# Altium integrated library TI Interface Display.IntLib: 133 symbols (part 15 of 16)
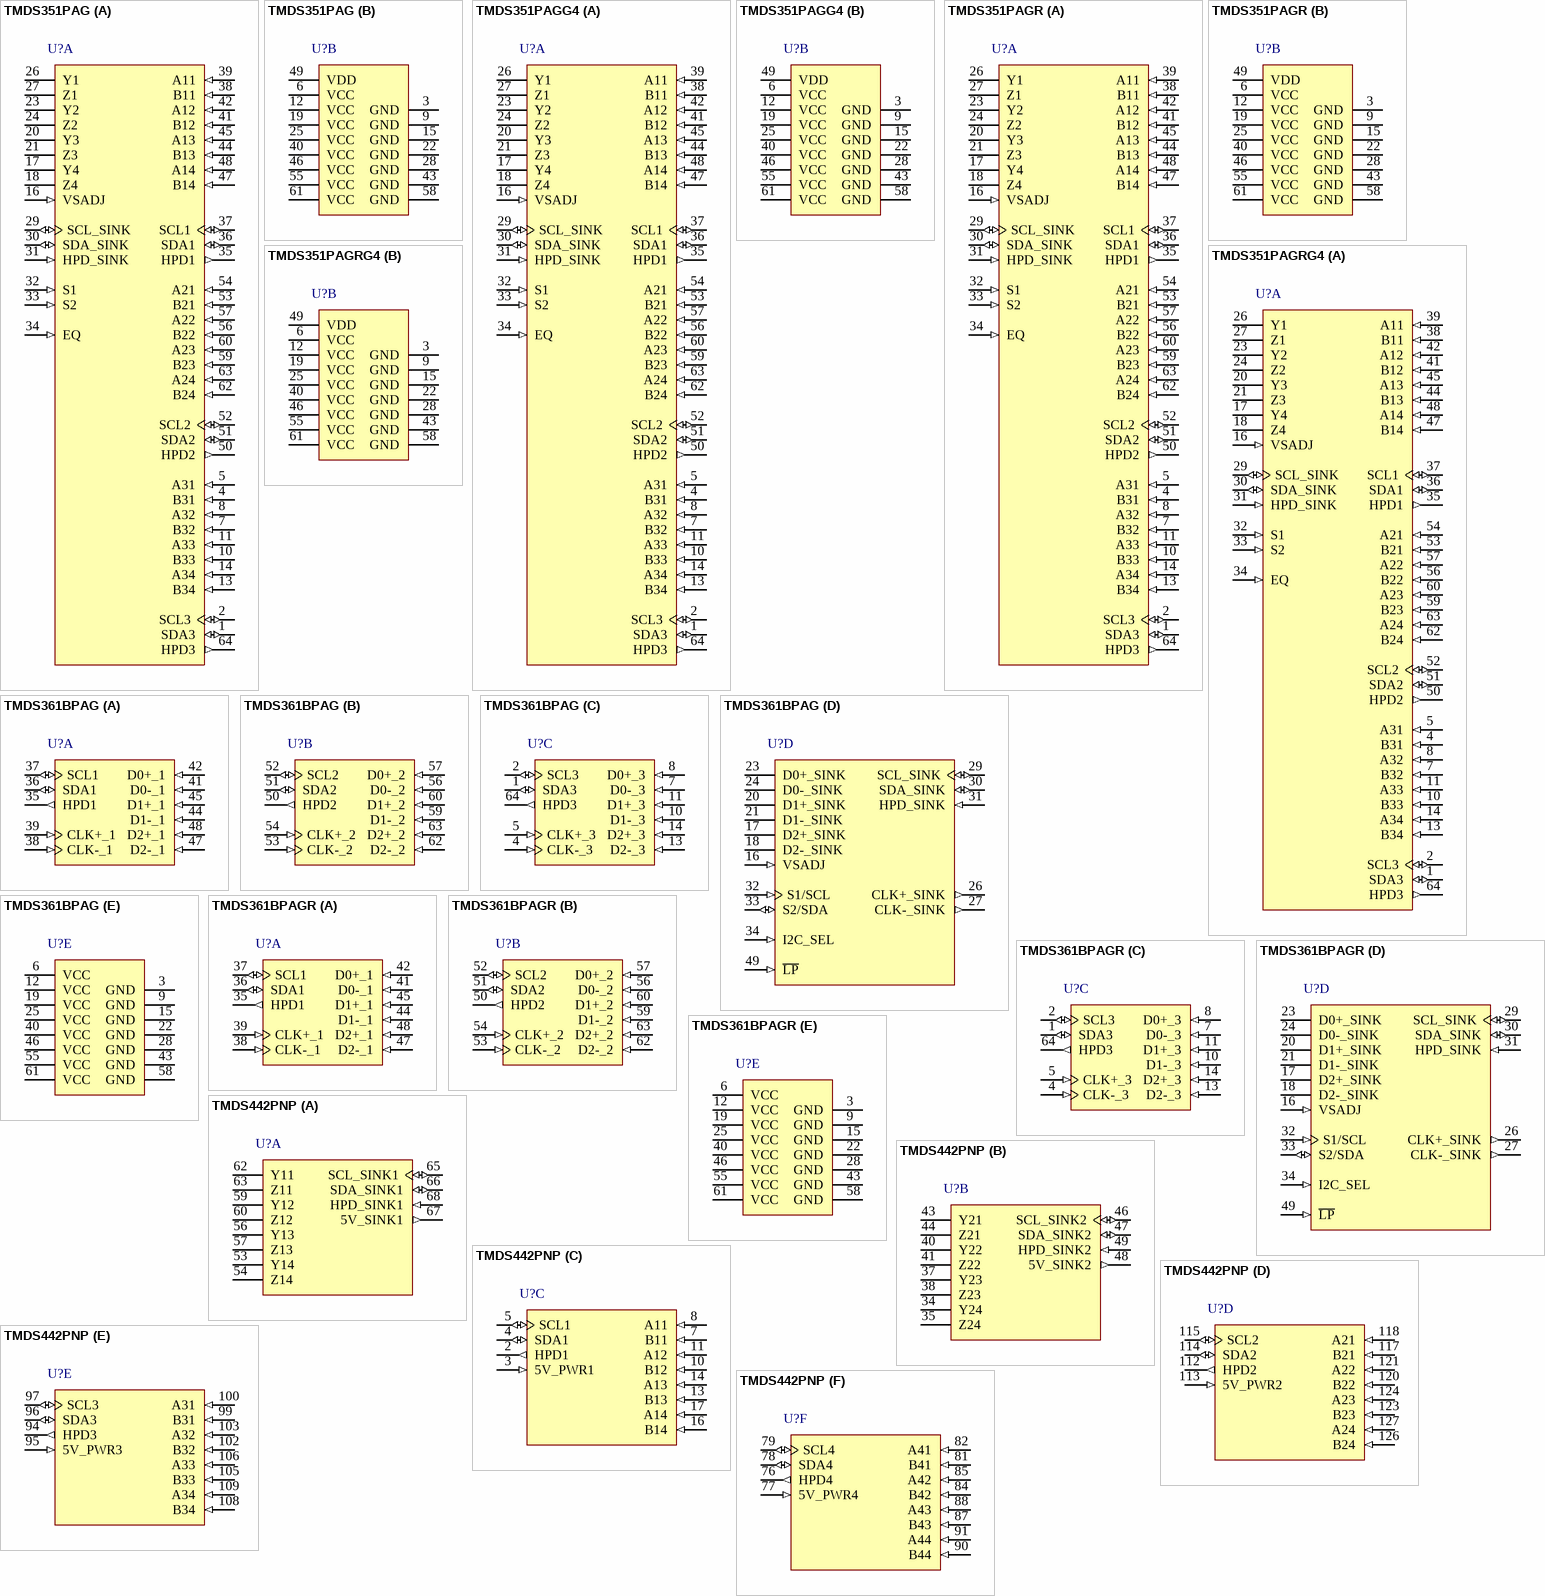
[diagram p28: symbols TMDS351PAG to TMDS442PNP]

## TMDS361BPAG
designator U?
3 to 1 HDMI switch, 10 kV, 216 mA, 0 to +70 degC, 64-pin TQFP (PAG64), Green (RoHS & no Sb/Br); Manufacturer: Texas Instruments; PartNumber: TMDS361BPAG; Clock P-P Jitter(Max)(ps): 84; Data P-P Jitter(Max)(ps): 198; ESD HBM(kV): 10; ICC(Max)(mA): 216; Inter-Pair Skew(Max)(ps): 100; Intra-Pair Skew(Max)(ps): 30; No. of TMDS Inputs: 3; No. of TMDS Outputs: 1; SubFamily: DVI/HDMI Repeater/Switch; TMDS Adaptive Equalization: TRUE; DatasheetVersion: SLLS988A; PackageVersion: Dec-1996; PackageReference: PAG64; PackageDescription: 64-Pin Thin Quad Flat Pack 0.5 mm Pitch; Supplier 1: Digi-Key; Supplier Part Number 1: 296-25278-ND; Supplier 2: Farnell; Supplier Part Number 2: 1854445MPKG; Supplier 3: Farnell; Supplier Part Number 3: 1854445; Supplier 4: Farnell; Supplier Part Number 4: 1780794; Supplier 5: Newark; Supplier Part Number 5: 51R4693; Supplier 6: Mouser; Supplier Part Number 6: 595-TMDS361BPAG; Eco-Plan: Green (RoHS & no Sb/Br); Mounting Technology: Surface Mount; Code_JEDEC: MS-026; ComponentLink1Description: Datasheet; ComponentLink1URL: http://www.ti.com/general/docs/lit/getliterature.tsp?genericPartNumber=TMDS361B&fileType=pdf; ComponentLink2Description: URL Link1; ComponentLink2URL: SamplesURL:http://www.ti.com/product/tmds361b#samples
footprint PAG64_N (Thin QFP, 64-Leads, Body 10x10mm, Pitch 0.5mm, IPC Medium Density)
footprint PAG64_L (Thin QFP, 64-Leads, Body 10x10mm, Pitch 0.5mm, IPC High Density)
footprint PAG64_M (Thin QFP, 64-Leads, Body 10x10mm, Pitch 0.5mm, IPC Low Density)
part A pins: 35 HPD1 (out) "Source port hot-plug-detect output", 36 SDA1 (io) "TMDS port bidirectional DDC data", 37 SCL1 (io) "TMDS port bidirectional DDC clock", 38 CLK-_1 (in) "Port-1 TMDS differential clock", 39 CLK+_1 (in) "Port-1 TMDS differential clock", 41 D0-_1 (in) "Port-1 TMDS differential data inputs", 42 D0+_1 (in) "Port-1 TMDS differential data inputs", 44 D1-_1 (in) "Port-1 TMDS differential data inputs", 45 D1+_1 (in) "Port-1 TMDS differential data inputs", 47 D2-_1 (in) "Port-1 TMDS differential data inputs", 48 D2+_1 (in) "Port-1 TMDS differential data inputs"
part B pins: 50 HPD2 (out) "Source port hot-plug-detect output", 51 SDA2 (io) "TMDS port bidirectional DDC data", 52 SCL2 (io) "TMDS port bidirectional DDC clock", 53 CLK-_2 (in) "Port-2 TMDS differential clock", 54 CLK+_2 (in) "Port-2 TMDS differential clock", 56 D0-_2 (in) "Port-2 TMDS differential data inputs", 57 D0+_2 (in) "Port-2 TMDS differential data inputs", 59 D1-_2 (in) "Port-2 TMDS differential data inputs", 60 D1+_2 (in) "Port-2 TMDS differential data inputs", 62 D2-_2 (in) "Port-2 TMDS differential data inputs", 63 D2+_2 (in) "Port-2 TMDS differential data inputs"
part C pins: 1 SDA3 (io) "TMDS port bidirectional DDC data", 2 SCL3 (io) "TMDS port bidirectional DDC clock", 4 CLK-_3 (in) "Port-3 TMDS differential clock", 5 CLK+_3 (in) "Port-3 TMDS differential clock", 7 D0-_3 (in) "Port-3 TMDS differential data inputs", 8 D0+_3 (in) "Port-3 TMDS differential data inputs", 10 D1-_3 (in) "Port-3 TMDS differential data inputs", 11 D1+_3 (in) "Port-3 TMDS differential data inputs", 13 D2-_3 (in) "Port-3 TMDS differential data inputs", 14 D2+_3 (in) "Port-3 TMDS differential data inputs", 64 HPD3 (out) "Source port hot-plug-detect output"
part D pins: 16 VSADJ (in) "TMDS-compliant voltage swing control", 17 D2+_SINK (hiz) "TMDS sink differential data outputs", 18 D2-_SINK (hiz) "TMDS sink differential data outputs", 20 D1+_SINK (hiz) "TMDS sink differential data outputs", 21 D1-_SINK (hiz) "TMDS sink differential data outputs", 23 D0+_SINK (hiz) "TMDS sink differential data outputs", 24 D0-_SINK (hiz) "TMDS sink differential data outputs", 26 CLK+_SINK (out) "TMDS sink differential clock", 27 CLK-_SINK (out) "TMDS sink differential clock", 29 SCL_SINK (io) "TMDS sink-side bidirectional DDC clock", 30 SDA_SINK (io) "TMDS sink-side bidirectional DDC data", 31 HPD_SINK (in) "Sink hot-plug-detect input", 32 S1/SCL (in) "Source select 1(GPIO) / local I2C clock (I2C)", 33 S2/SDA (io) "Source select 2 (GPIO) / local I2C data (I2C)", 34 I2C_SEL (in) "GPIO/local I2C control select", 49 ~{LP} (in) "Low-power select bar"
part E pins: 3 GND (power) "Ground", 6 VCC (power) "3.3-V supply", 9 GND (power) "Ground", 12 VCC (power) "3.3-V supply", 15 GND (power) "Ground", 19 VCC (power) "3.3-V supply", 22 GND (power) "Ground", 25 VCC (power) "3.3-V supply", 28 GND (power) "Ground", 40 VCC (power) "3.3-V supply", 43 GND (power) "Ground", 46 VCC (power) "3.3-V supply", 55 VCC (power) "3.3-V supply", 58 GND (power) "Ground", 61 VCC (power) "3.3-V supply"

## TMDS361BPAGR
designator U?
3 to 1 HDMI switch, 10 kV, 216 mA, 0 to +70 degC, 64-pin TQFP (PAG64), Green (RoHS & no Sb/Br); Manufacturer: Texas Instruments; PartNumber: TMDS361BPAGR; Clock P-P Jitter(Max)(ps): 84; Data P-P Jitter(Max)(ps): 198; ESD HBM(kV): 10; ICC(Max)(mA): 216; Inter-Pair Skew(Max)(ps): 100; Intra-Pair Skew(Max)(ps): 30; No. of TMDS Inputs: 3; No. of TMDS Outputs: 1; SubFamily: DVI/HDMI Repeater/Switch; TMDS Adaptive Equalization: TRUE; DatasheetVersion: SLLS988A; PackageVersion: Dec-1996; PackageReference: PAG64; PackageDescription: 64-Pin Thin Quad Flat Pack 0.5 mm Pitch; Supplier 1: Digi-Key; Supplier Part Number 1: TMDS361BPAGR-ND; Supplier 2: Newark; Supplier Part Number 2: 55R7479; Supplier 3: Mouser; Supplier Part Number 3: 595-TMDS361BPAGR; Eco-Plan: Green (RoHS & no Sb/Br); Mounting Technology: Surface Mount; Code_JEDEC: MS-026; ComponentLink1Description: Datasheet; ComponentLink1URL: http://www.ti.com/general/docs/lit/getliterature.tsp?genericPartNumber=TMDS361B&fileType=pdf; ComponentLink2Description: URL Link1; ComponentLink2URL: SamplesURL:http://www.ti.com/product/tmds361b#samples
footprint PAG64_N (Thin QFP, 64-Leads, Body 10x10mm, Pitch 0.5mm, IPC Medium Density)
footprint PAG64_L (Thin QFP, 64-Leads, Body 10x10mm, Pitch 0.5mm, IPC High Density)
footprint PAG64_M (Thin QFP, 64-Leads, Body 10x10mm, Pitch 0.5mm, IPC Low Density)
part A pins: 35 HPD1 (out) "Source port hot-plug-detect output", 36 SDA1 (io) "TMDS port bidirectional DDC data", 37 SCL1 (io) "TMDS port bidirectional DDC clock", 38 CLK-_1 (in) "Port-1 TMDS differential clock", 39 CLK+_1 (in) "Port-1 TMDS differential clock", 41 D0-_1 (in) "Port-1 TMDS differential data inputs", 42 D0+_1 (in) "Port-1 TMDS differential data inputs", 44 D1-_1 (in) "Port-1 TMDS differential data inputs", 45 D1+_1 (in) "Port-1 TMDS differential data inputs", 47 D2-_1 (in) "Port-1 TMDS differential data inputs", 48 D2+_1 (in) "Port-1 TMDS differential data inputs"
part B pins: 50 HPD2 (out) "Source port hot-plug-detect output", 51 SDA2 (io) "TMDS port bidirectional DDC data", 52 SCL2 (io) "TMDS port bidirectional DDC clock", 53 CLK-_2 (in) "Port-2 TMDS differential clock", 54 CLK+_2 (in) "Port-2 TMDS differential clock", 56 D0-_2 (in) "Port-2 TMDS differential data inputs", 57 D0+_2 (in) "Port-2 TMDS differential data inputs", 59 D1-_2 (in) "Port-2 TMDS differential data inputs", 60 D1+_2 (in) "Port-2 TMDS differential data inputs", 62 D2-_2 (in) "Port-2 TMDS differential data inputs", 63 D2+_2 (in) "Port-2 TMDS differential data inputs"
part C pins: 1 SDA3 (io) "TMDS port bidirectional DDC data", 2 SCL3 (io) "TMDS port bidirectional DDC clock", 4 CLK-_3 (in) "Port-3 TMDS differential clock", 5 CLK+_3 (in) "Port-3 TMDS differential clock", 7 D0-_3 (in) "Port-3 TMDS differential data inputs", 8 D0+_3 (in) "Port-3 TMDS differential data inputs", 10 D1-_3 (in) "Port-3 TMDS differential data inputs", 11 D1+_3 (in) "Port-3 TMDS differential data inputs", 13 D2-_3 (in) "Port-3 TMDS differential data inputs", 14 D2+_3 (in) "Port-3 TMDS differential data inputs", 64 HPD3 (out) "Source port hot-plug-detect output"
part D pins: 16 VSADJ (in) "TMDS-compliant voltage swing control", 17 D2+_SINK (hiz) "TMDS sink differential data outputs", 18 D2-_SINK (hiz) "TMDS sink differential data outputs", 20 D1+_SINK (hiz) "TMDS sink differential data outputs", 21 D1-_SINK (hiz) "TMDS sink differential data outputs", 23 D0+_SINK (hiz) "TMDS sink differential data outputs", 24 D0-_SINK (hiz) "TMDS sink differential data outputs", 26 CLK+_SINK (out) "TMDS sink differential clock", 27 CLK-_SINK (out) "TMDS sink differential clock", 29 SCL_SINK (io) "TMDS sink-side bidirectional DDC clock", 30 SDA_SINK (io) "TMDS sink-side bidirectional DDC data", 31 HPD_SINK (in) "Sink hot-plug-detect input", 32 S1/SCL (in) "Source select 1(GPIO) / local I2C clock (I2C)", 33 S2/SDA (io) "Source select 2 (GPIO) / local I2C data (I2C)", 34 I2C_SEL (in) "GPIO/local I2C control select", 49 ~{LP} (in) "Low-power select bar"
part E pins: 3 GND (power) "Ground", 6 VCC (power) "3.3-V supply", 9 GND (power) "Ground", 12 VCC (power) "3.3-V supply", 15 GND (power) "Ground", 19 VCC (power) "3.3-V supply", 22 GND (power) "Ground", 25 VCC (power) "3.3-V supply", 28 GND (power) "Ground", 40 VCC (power) "3.3-V supply", 43 GND (power) "Ground", 46 VCC (power) "3.3-V supply", 55 VCC (power) "3.3-V supply", 58 GND (power) "Ground", 61 VCC (power) "3.3-V supply"

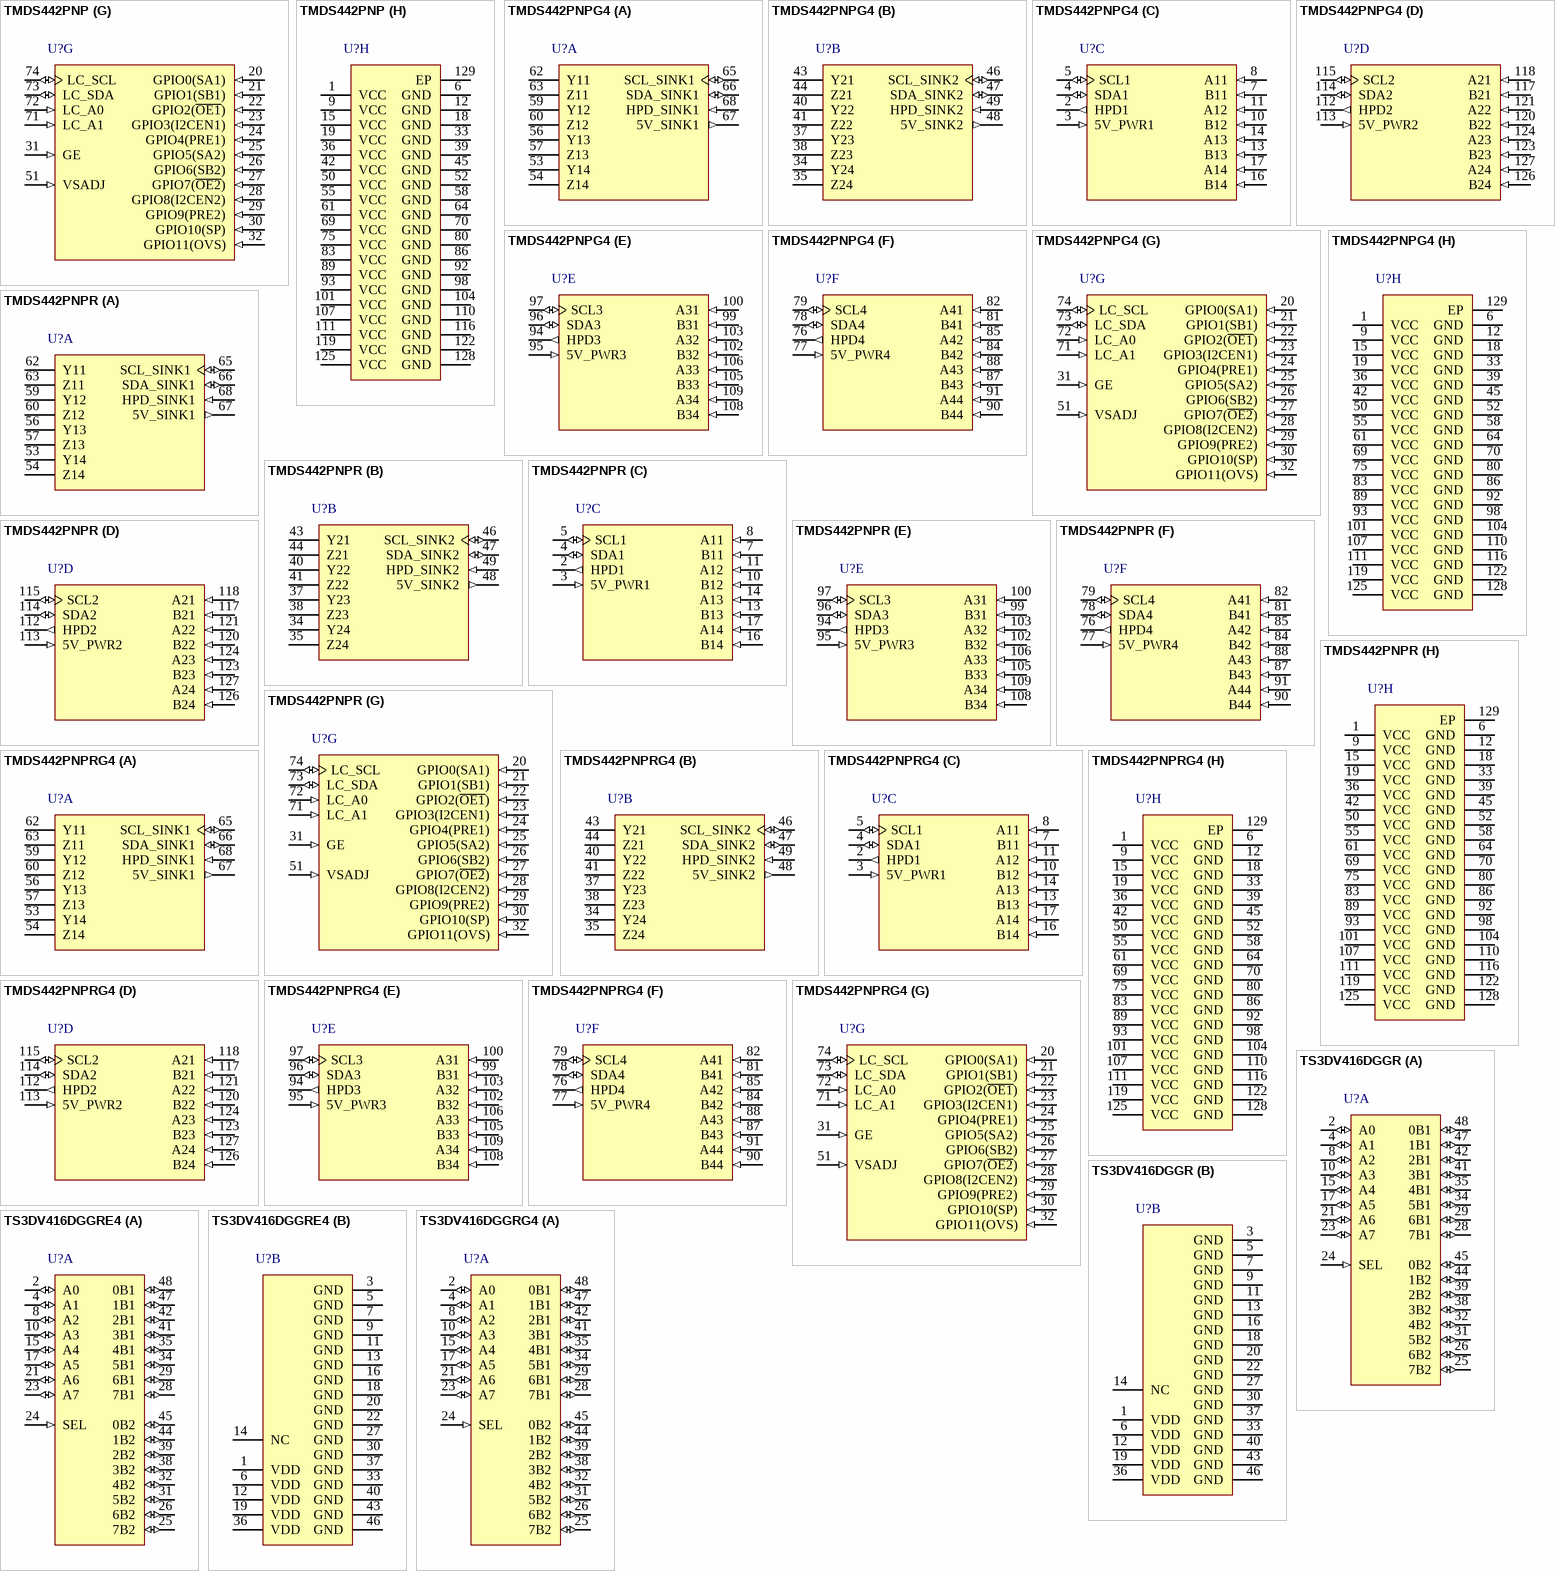
[diagram p13: symbols TMDS442PNP to TS3DV416DGGRG4]

## TMDS442PNP
designator U?
4-to-2 DVI / HDMI Switch, 6 kV, 412 mA, 0 to +70 degC, 128-pin HTQFP (PNP128), Green (RoHS & no Sb/Br); Manufacturer: Texas Instruments; PartNumber: TMDS442PNP; Clock P-P Jitter(Max)(ps): 30; Data P-P Jitter(Max)(ps): 33; ESD HBM(kV): 6; ICC(Max)(mA): 412; Inter-Pair Skew(Max)(ps): 150; No. of TMDS Inputs: 4; No. of TMDS Outputs: 2; SubFamily: DVI/HDMI Repeater/Switch; TMDS Input Equalization: TRUE; DatasheetVersion: SLLS757A; PackageVersion: revF, May-2011; PackageReference: PNP128-4900X4900TP; PackageDescription: 128-Pin PowerPAD Plastic Quad Flat Pack, 14 x 14 mm Body, 0.4 mm Pitch, Exposed Pad; Supplier 1: Digi-Key; Supplier Part Number 1: 296-26832-5-ND; Supplier 2: Newark; Supplier Part Number 2: 14M2469; Supplier 3: Mouser; Supplier Part Number 3: 595-TMDS442PNP; Eco-Plan: Green (RoHS & no Sb/Br); Intra-Pair Skew(Max)(ps): 150; TMDS Output De-emphasis: TRUE; Mounting Technology: Surface Mount; ComponentLink1Description: Datasheet; ComponentLink1URL: http://www.ti.com/general/docs/lit/getliterature.tsp?genericPartNumber=TMDS442&fileType=pdf; ComponentLink2Description: URL Link1; ComponentLink2URL: SamplesURL:http://www.ti.com/product/tmds442#samples
footprint PNP128-4900X4900TP_N (Thin QFP, 128-Leads, Body 14x14mm, Pitch 0.4mm, Thermal Pad 5.3x5.3mm, IPC Medium Density)
footprint PNP128-4900X4900TP_L (Thin QFP, 128-Leads, Body 14x14mm, Pitch 0.4mm, Thermal Pad 5.3x5.3mm, IPC High Density)
footprint PNP128-4900X4900TP_M (Thin QFP, 128-Leads, Body 14x14mm, Pitch 0.4mm, Thermal Pad 5.3x5.3mm, IPC Low Density)
part A pins: 53 Y14 (hiz) "Sink port 1 TMDS positive outputs", 54 Z14 (hiz) "Sink port 1 TMDS negative outputs", 56 Y13 (hiz) "Sink port 1 TMDS positive outputs", 57 Z13 (hiz) "Sink port 1 TMDS negative outputs", 59 Y12 (hiz) "Sink port 1 TMDS positive outputs", 60 Z12 (hiz) "Sink port 1 TMDS negative outputs", 62 Y11 (hiz) "Sink port 1 TMDS positive outputs", 63 Z11 (hiz) "Sink port 1 TMDS negative outputs", 65 SCL_SINK1 (io) "Sink port 1 DDC I2C clock line", 66 SDA_SINK1 (io) "Sink port 1 DDC I2C data line", 67 5V_SINK1 (out) "Sink Port 1 5-V power indicator output", 68 HPD_SINK1 (in) "Sink port 1 hot plug detector input"
part B pins: 34 Y24 (hiz) "Sink port 2 TMDS positive outputs", 35 Z24 (hiz) "Sink port 2 TMDS negative outputs", 37 Y23 (hiz) "Sink port 2 TMDS positive outputs", 38 Z23 (hiz) "Sink port 2 TMDS negative outputs", 40 Y22 (hiz) "Sink port 2 TMDS positive outputs", 41 Z22 (hiz) "Sink port 2 TMDS negative outputs", 43 Y21 (hiz) "Sink port 2 TMDS positive outputs", 44 Z21 (hiz) "Sink port 2 TMDS negative outputs", 46 SCL_SINK2 (io) "Sink port 2 DDC I2C clock line", 47 SDA_SINK2 (io) "Sink port 2 DDC I2C data line", 48 5V_SINK2 (out) "Sink Port 2 5-V power indicator output", 49 HPD_SINK2 (in) "Sink port 2 hot plug detector input"
part C pins: 2 HPD1 (out) "Source Port 1 hot plug detector output", 3 5V_PWR1 (in) "Source Port 1 5-V power signal input", 4 SDA1 (io) "Source Port 1 DDC I2C data line", 5 SCL1 (io) "Source Port 1 DDC I2C clock line", 7 B11 (in) "Source port 1 TMDS negative inputs", 8 A11 (in) "Source port 1 TMDS positive inputs", 10 B12 (in) "Source port 1 TMDS negative inputs", 11 A12 (in) "Source port 1 TMDS positive inputs", 13 B13 (in) "Source port 1 TMDS negative inputs", 14 A13 (in) "Source port 1 TMDS positive inputs", 16 B14 (in) "Source port 1 TMDS negative inputs", 17 A14 (in) "Source port 1 TMDS positive inputs"
part D pins: 112 HPD2 (out) "Source Port 2 hot plug detector output", 113 5V_PWR2 (in) "Source Port 2 5-V power signal input", 114 SDA2 (io) "Source Port 2 DDC I2C data line", 115 SCL2 (io) "Source Port 2 DDC I2C clock line", 117 B21 (in) "Source port 2 TMDS negative inputs", 118 A21 (in) "Source port 2 TMDS positive inputs", 120 B22 (in) "Source port 2 TMDS negative inputs", 121 A22 (in) "Source port 2 TMDS positive inputs", 123 B23 (in) "Source port 2 TMDS negative inputs", 124 A23 (in) "Source port 2 TMDS positive inputs", 126 B24 (in) "Source port 2 TMDS negative inputs", 127 A24 (in) "Source port 2 TMDS positive inputs"
part E pins: 94 HPD3 (out) "Source Port 3 hot plug detector output", 95 5V_PWR3 (in) "Source Port 3 5-V power signal input", 96 SDA3 (io) "Source Port 3 DDC I2C data line", 97 SCL3 (io) "Source Port 3 DDC I2C clock line", 99 B31 (in) "Source port 3 TMDS negative inputs", 100 A31 (in) "Source port 3 TMDS positive inputs", 102 B32 (in) "Source port 3 TMDS negative inputs", 103 A32 (in) "Source port 3 TMDS positive inputs", 105 B33 (in) "Source port 3 TMDS negative inputs", 106 A33 (in) "Source port 3 TMDS positive inputs", 108 B34 (in) "Source port 3 TMDS negative inputs", 109 A34 (in) "Source port 3 TMDS positive inputs"
part F pins: 76 HPD4 (out) "Source Port 4 hot plug detector output", 77 5V_PWR4 (in) "Source Port 4 5-V power signal input", 78 SDA4 (io) "Source Port 4 DDC I2C data line", 79 SCL4 (io) "Source Port 4 DDC I2C clock line", 81 B41 (in) "Source port 4 TMDS negative inputs", 82 A41 (in) "Source port 4 TMDS positive inputs", 84 B42 (in) "Source port 4 TMDS negative inputs", 85 A42 (in) "Source port 4 TMDS positive inputs", 87 B43 (in) "Source port 4 TMDS negative inputs", 88 A43 (in) "Source port 4 TMDS positive inputs", 90 B44 (in) "Source port 4 TMDS negative inputs", 91 A44 (in) "Source port 4 TMDS positive inputs"
part G pins: 20 GPIO0(SA1) (in) "SA1 - Sink port 1 source selector", 21 GPIO1(SB1) (in) "SB1 - Sink port 1 source selector", 22 GPIO2(~{OE1}) (in) "O\E\1\ - Sink port 1 TMDS output enable", 23 GPIO3(I2CEN1) (in) "I2CEN1 - Sink port 1 DDC I2C output enable", 24 GPIO4(PRE1) (in) "PRE1 - Sink port 1 TMDS AC de-emphasis mode selector", 25 GPIO5(SA2) (in) "SA2 - Sink port 2 source selector", 26 GPIO6(SB2) (in) "SB2 - Sink port 2 source selector", 27 GPIO7(~{OE2}) (in) "O\E\2\ - Sink port 2 TMDS output enable", 28 GPIO8(I2CEN2) (in) "I2CEN2 - Sink port 2 DDC I2C output enable", 29 GPIO9(PRE2) (in) "PRE2 - Sink port 2 TMDS AC de-emphasis mode selector", 30 GPIO10(SP) (in) "SP - Sink priority selector", 31 GE (in) "GPIO Enable L:     Local I2C pins are active, GPIO pins are high impedance.    H: GPIO pins are active, local I2C pins are high impedance", 32 GPIO11(OVS) (in) "OVS - SCL_SINK/SDA_SINK output voltage select", 51 VSADJ (in) "TMDS compliant voltage swing control", 71 LC_A1 (in) "Local I2C address bit 1", 72 LC_A0 (in) "Local I2C address bit 0", 73 LC_SDA (io) "Local I2C data line", 74 LC_SCL (io) "Local I2C clock line"
part H pins: 1 VCC (power) "Power supply", 6 GND (power) "Ground", 9 VCC (power) "Power supply", 12 GND (power) "Ground", 15 VCC (power) "Power supply", 18 GND (power) "Ground", 19 VCC (power) "Power supply", 33 GND (power) "Ground", 36 VCC (power) "Power supply", 39 GND (power) "Ground", 42 VCC (power) "Power supply", 45 GND (power) "Ground", 50 VCC (power) "Power supply", 52 GND (power) "Ground", 55 VCC (power) "Power supply", 58 GND (power) "Ground", 61 VCC (power) "Power supply", 64 GND (power) "Ground", 69 VCC (power) "Power supply", 70 GND (power) "Ground", 75 VCC (power) "Power supply", 80 GND (power) "Ground", 83 VCC (power) "Power supply", 86 GND (power) "Ground", 89 VCC (power) "Power supply", 92 GND (power) "Ground", 93 VCC (power) "Power supply", 98 GND (power) "Ground", 101 VCC (power) "Power supply", 104 GND (power) "Ground", 107 VCC (power) "Power supply", 110 GND (power) "Ground", 111 VCC (power) "Power supply", 116 GND (power) "Ground", 119 VCC (power) "Power supply", 122 GND (power) "Ground", 125 VCC (power) "Power supply", 128 GND (power) "Ground", 129 EP "Thermal Pad"

## TMDS442PNPG4
designator U?
4-to-2 DVI / HDMI Switch, 6 kV, 412 mA, 0 to +70 degC, 128-pin HTQFP (PNP128), Green (RoHS & no Sb/Br); Manufacturer: Texas Instruments; PartNumber: TMDS442PNPG4; Clock P-P Jitter(Max)(ps): 30; Data P-P Jitter(Max)(ps): 33; ESD HBM(kV): 6; ICC(Max)(mA): 412; Inter-Pair Skew(Max)(ps): 150; No. of TMDS Inputs: 4; No. of TMDS Outputs: 2; SubFamily: DVI/HDMI Repeater/Switch; TMDS Input Equalization: TRUE; DatasheetVersion: SLLS757A; PackageVersion: revF, May-2011; PackageReference: PNP128-4900X4900TP; PackageDescription: 128-Pin PowerPAD Plastic Quad Flat Pack, 14 x 14 mm Body, 0.4 mm Pitch, Exposed Pad; Supplier 1: Digi-Key; Supplier Part Number 1: TMDS442PNPG4-ND; Supplier 2: Newark; Supplier Part Number 2: 18M3197; Supplier 3: Mouser; Supplier Part Number 3: 595-TMDS442PNPG4; Eco-Plan: Green (RoHS & no Sb/Br); Intra-Pair Skew(Max)(ps): 150; TMDS Output De-emphasis: TRUE; Mounting Technology: Surface Mount; ComponentLink1Description: Datasheet; ComponentLink1URL: http://www.ti.com/general/docs/lit/getliterature.tsp?genericPartNumber=TMDS442&fileType=pdf; ComponentLink2Description: URL Link1; ComponentLink2URL: SamplesURL:http://www.ti.com/product/tmds442#samples
footprint PNP128-4900X4900TP_N (Thin QFP, 128-Leads, Body 14x14mm, Pitch 0.4mm, Thermal Pad 5.3x5.3mm, IPC Medium Density)
footprint PNP128-4900X4900TP_L (Thin QFP, 128-Leads, Body 14x14mm, Pitch 0.4mm, Thermal Pad 5.3x5.3mm, IPC High Density)
footprint PNP128-4900X4900TP_M (Thin QFP, 128-Leads, Body 14x14mm, Pitch 0.4mm, Thermal Pad 5.3x5.3mm, IPC Low Density)
part A pins: 53 Y14 (hiz) "Sink port 1 TMDS positive outputs", 54 Z14 (hiz) "Sink port 1 TMDS negative outputs", 56 Y13 (hiz) "Sink port 1 TMDS positive outputs", 57 Z13 (hiz) "Sink port 1 TMDS negative outputs", 59 Y12 (hiz) "Sink port 1 TMDS positive outputs", 60 Z12 (hiz) "Sink port 1 TMDS negative outputs", 62 Y11 (hiz) "Sink port 1 TMDS positive outputs", 63 Z11 (hiz) "Sink port 1 TMDS negative outputs", 65 SCL_SINK1 (io) "Sink port 1 DDC I2C clock line", 66 SDA_SINK1 (io) "Sink port 1 DDC I2C data line", 67 5V_SINK1 (out) "Sink Port 1 5-V power indicator output", 68 HPD_SINK1 (in) "Sink port 1 hot plug detector input"
part B pins: 34 Y24 (hiz) "Sink port 2 TMDS positive outputs", 35 Z24 (hiz) "Sink port 2 TMDS negative outputs", 37 Y23 (hiz) "Sink port 2 TMDS positive outputs", 38 Z23 (hiz) "Sink port 2 TMDS negative outputs", 40 Y22 (hiz) "Sink port 2 TMDS positive outputs", 41 Z22 (hiz) "Sink port 2 TMDS negative outputs", 43 Y21 (hiz) "Sink port 2 TMDS positive outputs", 44 Z21 (hiz) "Sink port 2 TMDS negative outputs", 46 SCL_SINK2 (io) "Sink port 2 DDC I2C clock line", 47 SDA_SINK2 (io) "Sink port 2 DDC I2C data line", 48 5V_SINK2 (out) "Sink Port 2 5-V power indicator output", 49 HPD_SINK2 (in) "Sink port 2 hot plug detector input"
part C pins: 2 HPD1 (out) "Source Port 1 hot plug detector output", 3 5V_PWR1 (in) "Source Port 1 5-V power signal input", 4 SDA1 (io) "Source Port 1 DDC I2C data line", 5 SCL1 (io) "Source Port 1 DDC I2C clock line", 7 B11 (in) "Source port 1 TMDS negative inputs", 8 A11 (in) "Source port 1 TMDS positive inputs", 10 B12 (in) "Source port 1 TMDS negative inputs", 11 A12 (in) "Source port 1 TMDS positive inputs", 13 B13 (in) "Source port 1 TMDS negative inputs", 14 A13 (in) "Source port 1 TMDS positive inputs", 16 B14 (in) "Source port 1 TMDS negative inputs", 17 A14 (in) "Source port 1 TMDS positive inputs"
part D pins: 112 HPD2 (out) "Source Port 2 hot plug detector output", 113 5V_PWR2 (in) "Source Port 2 5-V power signal input", 114 SDA2 (io) "Source Port 2 DDC I2C data line", 115 SCL2 (io) "Source Port 2 DDC I2C clock line", 117 B21 (in) "Source port 2 TMDS negative inputs", 118 A21 (in) "Source port 2 TMDS positive inputs", 120 B22 (in) "Source port 2 TMDS negative inputs", 121 A22 (in) "Source port 2 TMDS positive inputs", 123 B23 (in) "Source port 2 TMDS negative inputs", 124 A23 (in) "Source port 2 TMDS positive inputs", 126 B24 (in) "Source port 2 TMDS negative inputs", 127 A24 (in) "Source port 2 TMDS positive inputs"
part E pins: 94 HPD3 (out) "Source Port 3 hot plug detector output", 95 5V_PWR3 (in) "Source Port 3 5-V power signal input", 96 SDA3 (io) "Source Port 3 DDC I2C data line", 97 SCL3 (io) "Source Port 3 DDC I2C clock line", 99 B31 (in) "Source port 3 TMDS negative inputs", 100 A31 (in) "Source port 3 TMDS positive inputs", 102 B32 (in) "Source port 3 TMDS negative inputs", 103 A32 (in) "Source port 3 TMDS positive inputs", 105 B33 (in) "Source port 3 TMDS negative inputs", 106 A33 (in) "Source port 3 TMDS positive inputs", 108 B34 (in) "Source port 3 TMDS negative inputs", 109 A34 (in) "Source port 3 TMDS positive inputs"
part F pins: 76 HPD4 (out) "Source Port 4 hot plug detector output", 77 5V_PWR4 (in) "Source Port 4 5-V power signal input", 78 SDA4 (io) "Source Port 4 DDC I2C data line", 79 SCL4 (io) "Source Port 4 DDC I2C clock line", 81 B41 (in) "Source port 4 TMDS negative inputs", 82 A41 (in) "Source port 4 TMDS positive inputs", 84 B42 (in) "Source port 4 TMDS negative inputs", 85 A42 (in) "Source port 4 TMDS positive inputs", 87 B43 (in) "Source port 4 TMDS negative inputs", 88 A43 (in) "Source port 4 TMDS positive inputs", 90 B44 (in) "Source port 4 TMDS negative inputs", 91 A44 (in) "Source port 4 TMDS positive inputs"
part G pins: 20 GPIO0(SA1) (in) "SA1 - Sink port 1 source selector", 21 GPIO1(SB1) (in) "SB1 - Sink port 1 source selector", 22 GPIO2(~{OE1}) (in) "O\E\1\ - Sink port 1 TMDS output enable", 23 GPIO3(I2CEN1) (in) "I2CEN1 - Sink port 1 DDC I2C output enable", 24 GPIO4(PRE1) (in) "PRE1 - Sink port 1 TMDS AC de-emphasis mode selector", 25 GPIO5(SA2) (in) "SA2 - Sink port 2 source selector", 26 GPIO6(SB2) (in) "SB2 - Sink port 2 source selector", 27 GPIO7(~{OE2}) (in) "O\E\2\ - Sink port 2 TMDS output enable", 28 GPIO8(I2CEN2) (in) "I2CEN2 - Sink port 2 DDC I2C output enable", 29 GPIO9(PRE2) (in) "PRE2 - Sink port 2 TMDS AC de-emphasis mode selector", 30 GPIO10(SP) (in) "SP - Sink priority selector", 31 GE (in) "GPIO Enable L:     Local I2C pins are active, GPIO pins are high impedance.    H: GPIO pins are active, local I2C pins are high impedance", 32 GPIO11(OVS) (in) "OVS - SCL_SINK/SDA_SINK output voltage select", 51 VSADJ (in) "TMDS compliant voltage swing control", 71 LC_A1 (in) "Local I2C address bit 1", 72 LC_A0 (in) "Local I2C address bit 0", 73 LC_SDA (io) "Local I2C data line", 74 LC_SCL (io) "Local I2C clock line"
part H pins: 1 VCC (power) "Power supply", 6 GND (power) "Ground", 9 VCC (power) "Power supply", 12 GND (power) "Ground", 15 VCC (power) "Power supply", 18 GND (power) "Ground", 19 VCC (power) "Power supply", 33 GND (power) "Ground", 36 VCC (power) "Power supply", 39 GND (power) "Ground", 42 VCC (power) "Power supply", 45 GND (power) "Ground", 50 VCC (power) "Power supply", 52 GND (power) "Ground", 55 VCC (power) "Power supply", 58 GND (power) "Ground", 61 VCC (power) "Power supply", 64 GND (power) "Ground", 69 VCC (power) "Power supply", 70 GND (power) "Ground", 75 VCC (power) "Power supply", 80 GND (power) "Ground", 83 VCC (power) "Power supply", 86 GND (power) "Ground", 89 VCC (power) "Power supply", 92 GND (power) "Ground", 93 VCC (power) "Power supply", 98 GND (power) "Ground", 101 VCC (power) "Power supply", 104 GND (power) "Ground", 107 VCC (power) "Power supply", 110 GND (power) "Ground", 111 VCC (power) "Power supply", 116 GND (power) "Ground", 119 VCC (power) "Power supply", 122 GND (power) "Ground", 125 VCC (power) "Power supply", 128 GND (power) "Ground", 129 EP "Thermal Pad"

## TMDS442PNPR
designator U?
4-to-2 DVI / HDMI Switch, 6 kV, 412 mA, 0 to +70 degC, 128-pin HTQFP (PNP128), Green (RoHS & no Sb/Br); Manufacturer: Texas Instruments; PartNumber: TMDS442PNPR; Clock P-P Jitter(Max)(ps): 30; Data P-P Jitter(Max)(ps): 33; ESD HBM(kV): 6; ICC(Max)(mA): 412; Inter-Pair Skew(Max)(ps): 150; No. of TMDS Inputs: 4; No. of TMDS Outputs: 2; SubFamily: DVI/HDMI Repeater/Switch; TMDS Input Equalization: TRUE; DatasheetVersion: SLLS757A; PackageVersion: revF, May-2011; PackageReference: PNP128-4900X4900TP; PackageDescription: 128-Pin PowerPAD Plastic Quad Flat Pack, 14 x 14 mm Body, 0.4 mm Pitch, Exposed Pad; Supplier 1: Digi-Key; Supplier Part Number 1: 296-21971-2-ND; Supplier 2: Digi-Key; Supplier Part Number 2: 296-21971-1-ND; Supplier 3: Digi-Key; Supplier Part Number 3: 296-21971-6-ND; Supplier 4: Newark; Supplier Part Number 4: 14M2470; Supplier 5: Mouser; Supplier Part Number 5: 595-TMDS442PNPR; Eco-Plan: Green (RoHS & no Sb/Br); Intra-Pair Skew(Max)(ps): 150; TMDS Output De-emphasis: TRUE; Mounting Technology: Surface Mount; ComponentLink1Description: Datasheet; ComponentLink1URL: http://www.ti.com/general/docs/lit/getliterature.tsp?genericPartNumber=TMDS442&fileType=pdf; ComponentLink2Description: URL Link1; ComponentLink2URL: SamplesURL:http://www.ti.com/product/tmds442#samples
footprint PNP128-4900X4900TP_N (Thin QFP, 128-Leads, Body 14x14mm, Pitch 0.4mm, Thermal Pad 5.3x5.3mm, IPC Medium Density)
footprint PNP128-4900X4900TP_L (Thin QFP, 128-Leads, Body 14x14mm, Pitch 0.4mm, Thermal Pad 5.3x5.3mm, IPC High Density)
footprint PNP128-4900X4900TP_M (Thin QFP, 128-Leads, Body 14x14mm, Pitch 0.4mm, Thermal Pad 5.3x5.3mm, IPC Low Density)
part A pins: 53 Y14 (hiz) "Sink port 1 TMDS positive outputs", 54 Z14 (hiz) "Sink port 1 TMDS negative outputs", 56 Y13 (hiz) "Sink port 1 TMDS positive outputs", 57 Z13 (hiz) "Sink port 1 TMDS negative outputs", 59 Y12 (hiz) "Sink port 1 TMDS positive outputs", 60 Z12 (hiz) "Sink port 1 TMDS negative outputs", 62 Y11 (hiz) "Sink port 1 TMDS positive outputs", 63 Z11 (hiz) "Sink port 1 TMDS negative outputs", 65 SCL_SINK1 (io) "Sink port 1 DDC I2C clock line", 66 SDA_SINK1 (io) "Sink port 1 DDC I2C data line", 67 5V_SINK1 (out) "Sink Port 1 5-V power indicator output", 68 HPD_SINK1 (in) "Sink port 1 hot plug detector input"
part B pins: 34 Y24 (hiz) "Sink port 2 TMDS positive outputs", 35 Z24 (hiz) "Sink port 2 TMDS negative outputs", 37 Y23 (hiz) "Sink port 2 TMDS positive outputs", 38 Z23 (hiz) "Sink port 2 TMDS negative outputs", 40 Y22 (hiz) "Sink port 2 TMDS positive outputs", 41 Z22 (hiz) "Sink port 2 TMDS negative outputs", 43 Y21 (hiz) "Sink port 2 TMDS positive outputs", 44 Z21 (hiz) "Sink port 2 TMDS negative outputs", 46 SCL_SINK2 (io) "Sink port 2 DDC I2C clock line", 47 SDA_SINK2 (io) "Sink port 2 DDC I2C data line", 48 5V_SINK2 (out) "Sink Port 2 5-V power indicator output", 49 HPD_SINK2 (in) "Sink port 2 hot plug detector input"
part C pins: 2 HPD1 (out) "Source Port 1 hot plug detector output", 3 5V_PWR1 (in) "Source Port 1 5-V power signal input", 4 SDA1 (io) "Source Port 1 DDC I2C data line", 5 SCL1 (io) "Source Port 1 DDC I2C clock line", 7 B11 (in) "Source port 1 TMDS negative inputs", 8 A11 (in) "Source port 1 TMDS positive inputs", 10 B12 (in) "Source port 1 TMDS negative inputs", 11 A12 (in) "Source port 1 TMDS positive inputs", 13 B13 (in) "Source port 1 TMDS negative inputs", 14 A13 (in) "Source port 1 TMDS positive inputs", 16 B14 (in) "Source port 1 TMDS negative inputs", 17 A14 (in) "Source port 1 TMDS positive inputs"
part D pins: 112 HPD2 (out) "Source Port 2 hot plug detector output", 113 5V_PWR2 (in) "Source Port 2 5-V power signal input", 114 SDA2 (io) "Source Port 2 DDC I2C data line", 115 SCL2 (io) "Source Port 2 DDC I2C clock line", 117 B21 (in) "Source port 2 TMDS negative inputs", 118 A21 (in) "Source port 2 TMDS positive inputs", 120 B22 (in) "Source port 2 TMDS negative inputs", 121 A22 (in) "Source port 2 TMDS positive inputs", 123 B23 (in) "Source port 2 TMDS negative inputs", 124 A23 (in) "Source port 2 TMDS positive inputs", 126 B24 (in) "Source port 2 TMDS negative inputs", 127 A24 (in) "Source port 2 TMDS positive inputs"
part E pins: 94 HPD3 (out) "Source Port 3 hot plug detector output", 95 5V_PWR3 (in) "Source Port 3 5-V power signal input", 96 SDA3 (io) "Source Port 3 DDC I2C data line", 97 SCL3 (io) "Source Port 3 DDC I2C clock line", 99 B31 (in) "Source port 3 TMDS negative inputs", 100 A31 (in) "Source port 3 TMDS positive inputs", 102 B32 (in) "Source port 3 TMDS negative inputs", 103 A32 (in) "Source port 3 TMDS positive inputs", 105 B33 (in) "Source port 3 TMDS negative inputs", 106 A33 (in) "Source port 3 TMDS positive inputs", 108 B34 (in) "Source port 3 TMDS negative inputs", 109 A34 (in) "Source port 3 TMDS positive inputs"
part F pins: 76 HPD4 (out) "Source Port 4 hot plug detector output", 77 5V_PWR4 (in) "Source Port 4 5-V power signal input", 78 SDA4 (io) "Source Port 4 DDC I2C data line", 79 SCL4 (io) "Source Port 4 DDC I2C clock line", 81 B41 (in) "Source port 4 TMDS negative inputs", 82 A41 (in) "Source port 4 TMDS positive inputs", 84 B42 (in) "Source port 4 TMDS negative inputs", 85 A42 (in) "Source port 4 TMDS positive inputs", 87 B43 (in) "Source port 4 TMDS negative inputs", 88 A43 (in) "Source port 4 TMDS positive inputs", 90 B44 (in) "Source port 4 TMDS negative inputs", 91 A44 (in) "Source port 4 TMDS positive inputs"
part G pins: 20 GPIO0(SA1) (in) "SA1 - Sink port 1 source selector", 21 GPIO1(SB1) (in) "SB1 - Sink port 1 source selector", 22 GPIO2(~{OE1}) (in) "O\E\1\ - Sink port 1 TMDS output enable", 23 GPIO3(I2CEN1) (in) "I2CEN1 - Sink port 1 DDC I2C output enable", 24 GPIO4(PRE1) (in) "PRE1 - Sink port 1 TMDS AC de-emphasis mode selector", 25 GPIO5(SA2) (in) "SA2 - Sink port 2 source selector", 26 GPIO6(SB2) (in) "SB2 - Sink port 2 source selector", 27 GPIO7(~{OE2}) (in) "O\E\2\ - Sink port 2 TMDS output enable", 28 GPIO8(I2CEN2) (in) "I2CEN2 - Sink port 2 DDC I2C output enable", 29 GPIO9(PRE2) (in) "PRE2 - Sink port 2 TMDS AC de-emphasis mode selector", 30 GPIO10(SP) (in) "SP - Sink priority selector", 31 GE (in) "GPIO Enable L:     Local I2C pins are active, GPIO pins are high impedance.    H: GPIO pins are active, local I2C pins are high impedance", 32 GPIO11(OVS) (in) "OVS - SCL_SINK/SDA_SINK output voltage select", 51 VSADJ (in) "TMDS compliant voltage swing control", 71 LC_A1 (in) "Local I2C address bit 1", 72 LC_A0 (in) "Local I2C address bit 0", 73 LC_SDA (io) "Local I2C data line", 74 LC_SCL (io) "Local I2C clock line"
part H pins: 1 VCC (power) "Power supply", 6 GND (power) "Ground", 9 VCC (power) "Power supply", 12 GND (power) "Ground", 15 VCC (power) "Power supply", 18 GND (power) "Ground", 19 VCC (power) "Power supply", 33 GND (power) "Ground", 36 VCC (power) "Power supply", 39 GND (power) "Ground", 42 VCC (power) "Power supply", 45 GND (power) "Ground", 50 VCC (power) "Power supply", 52 GND (power) "Ground", 55 VCC (power) "Power supply", 58 GND (power) "Ground", 61 VCC (power) "Power supply", 64 GND (power) "Ground", 69 VCC (power) "Power supply", 70 GND (power) "Ground", 75 VCC (power) "Power supply", 80 GND (power) "Ground", 83 VCC (power) "Power supply", 86 GND (power) "Ground", 89 VCC (power) "Power supply", 92 GND (power) "Ground", 93 VCC (power) "Power supply", 98 GND (power) "Ground", 101 VCC (power) "Power supply", 104 GND (power) "Ground", 107 VCC (power) "Power supply", 110 GND (power) "Ground", 111 VCC (power) "Power supply", 116 GND (power) "Ground", 119 VCC (power) "Power supply", 122 GND (power) "Ground", 125 VCC (power) "Power supply", 128 GND (power) "Ground", 129 EP "Thermal Pad"

## TMDS442PNPRG4
designator U?
4-to-2 DVI / HDMI Switch, 6 kV, 412 mA, 0 to +70 degC, 128-pin HTQFP (PNP128), Green (RoHS & no Sb/Br); Manufacturer: Texas Instruments; PartNumber: TMDS442PNPRG4; Clock P-P Jitter(Max)(ps): 30; Data P-P Jitter(Max)(ps): 33; ESD HBM(kV): 6; ICC(Max)(mA): 412; Inter-Pair Skew(Max)(ps): 150; No. of TMDS Inputs: 4; No. of TMDS Outputs: 2; SubFamily: DVI/HDMI Repeater/Switch; TMDS Input Equalization: TRUE; DatasheetVersion: SLLS757A; PackageVersion: revF, May-2011; PackageReference: PNP128-4900X4900TP; PackageDescription: 128-Pin PowerPAD Plastic Quad Flat Pack, 14 x 14 mm Body, 0.4 mm Pitch, Exposed Pad; Supplier 1: Digi-Key; Supplier Part Number 1: TMDS442PNPRG4-ND; Supplier 2: Newark; Supplier Part Number 2: 18M3198; Supplier 3: Mouser; Supplier Part Number 3: 595-TMDS442PNPRG4; Eco-Plan: Green (RoHS & no Sb/Br); Intra-Pair Skew(Max)(ps): 150; TMDS Output De-emphasis: TRUE; Mounting Technology: Surface Mount; ComponentLink1Description: Datasheet; ComponentLink1URL: http://www.ti.com/general/docs/lit/getliterature.tsp?genericPartNumber=TMDS442&fileType=pdf; ComponentLink2Description: URL Link1; ComponentLink2URL: SamplesURL:http://www.ti.com/product/tmds442#samples
footprint PNP128-4900X4900TP_N (Thin QFP, 128-Leads, Body 14x14mm, Pitch 0.4mm, Thermal Pad 5.3x5.3mm, IPC Medium Density)
footprint PNP128-4900X4900TP_L (Thin QFP, 128-Leads, Body 14x14mm, Pitch 0.4mm, Thermal Pad 5.3x5.3mm, IPC High Density)
footprint PNP128-4900X4900TP_M (Thin QFP, 128-Leads, Body 14x14mm, Pitch 0.4mm, Thermal Pad 5.3x5.3mm, IPC Low Density)
part A pins: 53 Y14 (hiz) "Sink port 1 TMDS positive outputs", 54 Z14 (hiz) "Sink port 1 TMDS negative outputs", 56 Y13 (hiz) "Sink port 1 TMDS positive outputs", 57 Z13 (hiz) "Sink port 1 TMDS negative outputs", 59 Y12 (hiz) "Sink port 1 TMDS positive outputs", 60 Z12 (hiz) "Sink port 1 TMDS negative outputs", 62 Y11 (hiz) "Sink port 1 TMDS positive outputs", 63 Z11 (hiz) "Sink port 1 TMDS negative outputs", 65 SCL_SINK1 (io) "Sink port 1 DDC I2C clock line", 66 SDA_SINK1 (io) "Sink port 1 DDC I2C data line", 67 5V_SINK1 (out) "Sink Port 1 5-V power indicator output", 68 HPD_SINK1 (in) "Sink port 1 hot plug detector input"
part B pins: 34 Y24 (hiz) "Sink port 2 TMDS positive outputs", 35 Z24 (hiz) "Sink port 2 TMDS negative outputs", 37 Y23 (hiz) "Sink port 2 TMDS positive outputs", 38 Z23 (hiz) "Sink port 2 TMDS negative outputs", 40 Y22 (hiz) "Sink port 2 TMDS positive outputs", 41 Z22 (hiz) "Sink port 2 TMDS negative outputs", 43 Y21 (hiz) "Sink port 2 TMDS positive outputs", 44 Z21 (hiz) "Sink port 2 TMDS negative outputs", 46 SCL_SINK2 (io) "Sink port 2 DDC I2C clock line", 47 SDA_SINK2 (io) "Sink port 2 DDC I2C data line", 48 5V_SINK2 (out) "Sink Port 2 5-V power indicator output", 49 HPD_SINK2 (in) "Sink port 2 hot plug detector input"
part C pins: 2 HPD1 (out) "Source Port 1 hot plug detector output", 3 5V_PWR1 (in) "Source Port 1 5-V power signal input", 4 SDA1 (io) "Source Port 1 DDC I2C data line", 5 SCL1 (io) "Source Port 1 DDC I2C clock line", 7 B11 (in) "Source port 1 TMDS negative inputs", 8 A11 (in) "Source port 1 TMDS positive inputs", 10 B12 (in) "Source port 1 TMDS negative inputs", 11 A12 (in) "Source port 1 TMDS positive inputs", 13 B13 (in) "Source port 1 TMDS negative inputs", 14 A13 (in) "Source port 1 TMDS positive inputs", 16 B14 (in) "Source port 1 TMDS negative inputs", 17 A14 (in) "Source port 1 TMDS positive inputs"
part D pins: 112 HPD2 (out) "Source Port 2 hot plug detector output", 113 5V_PWR2 (in) "Source Port 2 5-V power signal input", 114 SDA2 (io) "Source Port 2 DDC I2C data line", 115 SCL2 (io) "Source Port 2 DDC I2C clock line", 117 B21 (in) "Source port 2 TMDS negative inputs", 118 A21 (in) "Source port 2 TMDS positive inputs", 120 B22 (in) "Source port 2 TMDS negative inputs", 121 A22 (in) "Source port 2 TMDS positive inputs", 123 B23 (in) "Source port 2 TMDS negative inputs", 124 A23 (in) "Source port 2 TMDS positive inputs", 126 B24 (in) "Source port 2 TMDS negative inputs", 127 A24 (in) "Source port 2 TMDS positive inputs"
part E pins: 94 HPD3 (out) "Source Port 3 hot plug detector output", 95 5V_PWR3 (in) "Source Port 3 5-V power signal input", 96 SDA3 (io) "Source Port 3 DDC I2C data line", 97 SCL3 (io) "Source Port 3 DDC I2C clock line", 99 B31 (in) "Source port 3 TMDS negative inputs", 100 A31 (in) "Source port 3 TMDS positive inputs", 102 B32 (in) "Source port 3 TMDS negative inputs", 103 A32 (in) "Source port 3 TMDS positive inputs", 105 B33 (in) "Source port 3 TMDS negative inputs", 106 A33 (in) "Source port 3 TMDS positive inputs", 108 B34 (in) "Source port 3 TMDS negative inputs", 109 A34 (in) "Source port 3 TMDS positive inputs"
part F pins: 76 HPD4 (out) "Source Port 4 hot plug detector output", 77 5V_PWR4 (in) "Source Port 4 5-V power signal input", 78 SDA4 (io) "Source Port 4 DDC I2C data line", 79 SCL4 (io) "Source Port 4 DDC I2C clock line", 81 B41 (in) "Source port 4 TMDS negative inputs", 82 A41 (in) "Source port 4 TMDS positive inputs", 84 B42 (in) "Source port 4 TMDS negative inputs", 85 A42 (in) "Source port 4 TMDS positive inputs", 87 B43 (in) "Source port 4 TMDS negative inputs", 88 A43 (in) "Source port 4 TMDS positive inputs", 90 B44 (in) "Source port 4 TMDS negative inputs", 91 A44 (in) "Source port 4 TMDS positive inputs"
part G pins: 20 GPIO0(SA1) (in) "SA1 - Sink port 1 source selector", 21 GPIO1(SB1) (in) "SB1 - Sink port 1 source selector", 22 GPIO2(~{OE1}) (in) "O\E\1\ - Sink port 1 TMDS output enable", 23 GPIO3(I2CEN1) (in) "I2CEN1 - Sink port 1 DDC I2C output enable", 24 GPIO4(PRE1) (in) "PRE1 - Sink port 1 TMDS AC de-emphasis mode selector", 25 GPIO5(SA2) (in) "SA2 - Sink port 2 source selector", 26 GPIO6(SB2) (in) "SB2 - Sink port 2 source selector", 27 GPIO7(~{OE2}) (in) "O\E\2\ - Sink port 2 TMDS output enable", 28 GPIO8(I2CEN2) (in) "I2CEN2 - Sink port 2 DDC I2C output enable", 29 GPIO9(PRE2) (in) "PRE2 - Sink port 2 TMDS AC de-emphasis mode selector", 30 GPIO10(SP) (in) "SP - Sink priority selector", 31 GE (in) "GPIO Enable L:     Local I2C pins are active, GPIO pins are high impedance.    H: GPIO pins are active, local I2C pins are high impedance", 32 GPIO11(OVS) (in) "OVS - SCL_SINK/SDA_SINK output voltage select", 51 VSADJ (in) "TMDS compliant voltage swing control", 71 LC_A1 (in) "Local I2C address bit 1", 72 LC_A0 (in) "Local I2C address bit 0", 73 LC_SDA (io) "Local I2C data line", 74 LC_SCL (io) "Local I2C clock line"
part H pins: 1 VCC (power) "Power supply", 6 GND (power) "Ground", 9 VCC (power) "Power supply", 12 GND (power) "Ground", 15 VCC (power) "Power supply", 18 GND (power) "Ground", 19 VCC (power) "Power supply", 33 GND (power) "Ground", 36 VCC (power) "Power supply", 39 GND (power) "Ground", 42 VCC (power) "Power supply", 45 GND (power) "Ground", 50 VCC (power) "Power supply", 52 GND (power) "Ground", 55 VCC (power) "Power supply", 58 GND (power) "Ground", 61 VCC (power) "Power supply", 64 GND (power) "Ground", 69 VCC (power) "Power supply", 70 GND (power) "Ground", 75 VCC (power) "Power supply", 80 GND (power) "Ground", 83 VCC (power) "Power supply", 86 GND (power) "Ground", 89 VCC (power) "Power supply", 92 GND (power) "Ground", 93 VCC (power) "Power supply", 98 GND (power) "Ground", 101 VCC (power) "Power supply", 104 GND (power) "Ground", 107 VCC (power) "Power supply", 110 GND (power) "Ground", 111 VCC (power) "Power supply", 116 GND (power) "Ground", 119 VCC (power) "Power supply", 122 GND (power) "Ground", 125 VCC (power) "Power supply", 128 GND (power) "Ground", 129 EP "Thermal Pad"

## TS3DV416DGGR
designator U?
4-Channel Differential 8:16 Multiplexer Switch for DVI / HDMI Applications, -40 to +85 degC, 48-pin TSSOP (DGG), Green (RoHS & no Sb/Br); Manufacturer: Texas Instruments; PartNumber: TS3DV416DGGR; SubFamily: DVI/HDMI Repeater/Switch; DatasheetVersion: SCDS198C; PackageVersion: revF, Dec-1997; PackageReference: DGG48; PackageDescription: 48-Pin Plastic Thin Shrink Small Outline Package 0.5 mm Pitch; Supplier 1: Digi-Key; Supplier Part Number 1: 296-21175-2-ND; Supplier 2: Digi-Key; Supplier Part Number 2: 296-21175-1-ND; Supplier 3: Digi-Key; Supplier Part Number 3: 296-21175-6-ND; Supplier 4: Newark; Supplier Part Number 4: 58K7019; Supplier 5: Mouser; Supplier Part Number 5: 595-TS3DV416DGGR; Eco-Plan: Green (RoHS & no Sb/Br); Mounting Technology: Surface Mount; Code_JEDEC: MO-153; ComponentLink1Description: Datasheet; ComponentLink1URL: http://www.ti.com/general/docs/lit/getliterature.tsp?genericPartNumber=TS3DV416&fileType=pdf; ComponentLink2Description: URL Link1; ComponentLink2URL: SamplesURL:http://www.ti.com/product/ts3dv416#samples
footprint DGG48_N (TSSOP, 48-Leads, Body 12.5x6.1mm, Pitch 0.5mm, IPC Medium Density)
footprint DGG48_L (TSSOP, 48-Leads, Body 12.5x6.1mm, Pitch 0.5mm, IPC High Density)
footprint DGG48_M (TSSOP, 48-Leads, Body 12.5x6.1mm, Pitch 0.5mm, IPC Low Density)
part A pins: 2 A0 (io) "Data I/O", 4 A1 (io) "Data I/O", 8 A2 (io) "Data I/O", 10 A3 (io) "Data I/O", 15 A4 (io) "Data I/O", 17 A5 (io) "Data I/O", 21 A6 (io) "Data I/O", 23 A7 (io) "Data I/O", 24 SEL (in) "Select input", 25 7B2 (io) "Data I/O", 26 6B2 (io) "Data I/O", 28 7B1 (io) "Data I/O", 29 6B1 (io) "Data I/O", 31 5B2 (io) "Data I/O", 32 4B2 (io) "Data I/O", 34 5B1 (io) "Data I/O", 35 4B1 (io) "Data I/O", 38 3B2 (io) "Data I/O", 39 2B2 (io) "Data I/O", 41 3B1 (io) "Data I/O", 42 2B1 (io) "Data I/O", 44 1B2 (io) "Data I/O", 45 0B2 (io) "Data I/O", 47 1B1 (io) "Data I/O", 48 0B1 (io) "Data I/O"
part B pins: 1 VDD (power), 3 GND (power) "Ground", 5 GND (power) "Ground", 6 VDD (power), 7 GND (power) "Ground", 9 GND (power) "Ground", 11 GND (power) "Ground", 12 VDD (power), 13 GND (power) "Ground", 14 NC "No Connect", 16 GND (power) "Ground", 18 GND (power) "Ground", 19 VDD (power), 20 GND (power) "Ground", 22 GND (power) "Ground", 27 GND (power) "Ground", 30 GND (power) "Ground", 33 GND (power) "Ground", 36 VDD (power), 37 GND (power) "Ground", 40 GND (power) "Ground", 43 GND (power) "Ground", 46 GND (power) "Ground"

## TS3DV416DGGRE4
designator U?
4-Channel Differential 8:16 Multiplexer Switch for DVI / HDMI Applications, -40 to +85 degC, 48-pin TSSOP (DGG), Green (RoHS & no Sb/Br); Manufacturer: Texas Instruments; PartNumber: TS3DV416DGGRE4; SubFamily: DVI/HDMI Repeater/Switch; DatasheetVersion: SCDS198C; PackageVersion: revF, Dec-1997; PackageReference: DGG48; PackageDescription: 48-Pin Plastic Thin Shrink Small Outline Package 0.5 mm Pitch; Supplier 1: Digi-Key; Supplier Part Number 1: TS3DV416DGGRE4-ND; Supplier 2: Newark; Supplier Part Number 2: 63K6604; Supplier 3: Mouser; Supplier Part Number 3: 595-TS3DV416DGGRE4; Eco-Plan: Green (RoHS & no Sb/Br); Mounting Technology: Surface Mount; Code_JEDEC: MO-153; ComponentLink1Description: Datasheet; ComponentLink1URL: http://www.ti.com/general/docs/lit/getliterature.tsp?genericPartNumber=TS3DV416&fileType=pdf; ComponentLink2Description: URL Link1; ComponentLink2URL: SamplesURL:http://www.ti.com/product/ts3dv416#samples
footprint DGG48_N (TSSOP, 48-Leads, Body 12.5x6.1mm, Pitch 0.5mm, IPC Medium Density)
footprint DGG48_L (TSSOP, 48-Leads, Body 12.5x6.1mm, Pitch 0.5mm, IPC High Density)
footprint DGG48_M (TSSOP, 48-Leads, Body 12.5x6.1mm, Pitch 0.5mm, IPC Low Density)
part A pins: 2 A0 (io) "Data I/O", 4 A1 (io) "Data I/O", 8 A2 (io) "Data I/O", 10 A3 (io) "Data I/O", 15 A4 (io) "Data I/O", 17 A5 (io) "Data I/O", 21 A6 (io) "Data I/O", 23 A7 (io) "Data I/O", 24 SEL (in) "Select input", 25 7B2 (io) "Data I/O", 26 6B2 (io) "Data I/O", 28 7B1 (io) "Data I/O", 29 6B1 (io) "Data I/O", 31 5B2 (io) "Data I/O", 32 4B2 (io) "Data I/O", 34 5B1 (io) "Data I/O", 35 4B1 (io) "Data I/O", 38 3B2 (io) "Data I/O", 39 2B2 (io) "Data I/O", 41 3B1 (io) "Data I/O", 42 2B1 (io) "Data I/O", 44 1B2 (io) "Data I/O", 45 0B2 (io) "Data I/O", 47 1B1 (io) "Data I/O", 48 0B1 (io) "Data I/O"
part B pins: 1 VDD (power), 3 GND (power) "Ground", 5 GND (power) "Ground", 6 VDD (power), 7 GND (power) "Ground", 9 GND (power) "Ground", 11 GND (power) "Ground", 12 VDD (power), 13 GND (power) "Ground", 14 NC "No Connect", 16 GND (power) "Ground", 18 GND (power) "Ground", 19 VDD (power), 20 GND (power) "Ground", 22 GND (power) "Ground", 27 GND (power) "Ground", 30 GND (power) "Ground", 33 GND (power) "Ground", 36 VDD (power), 37 GND (power) "Ground", 40 GND (power) "Ground", 43 GND (power) "Ground", 46 GND (power) "Ground"

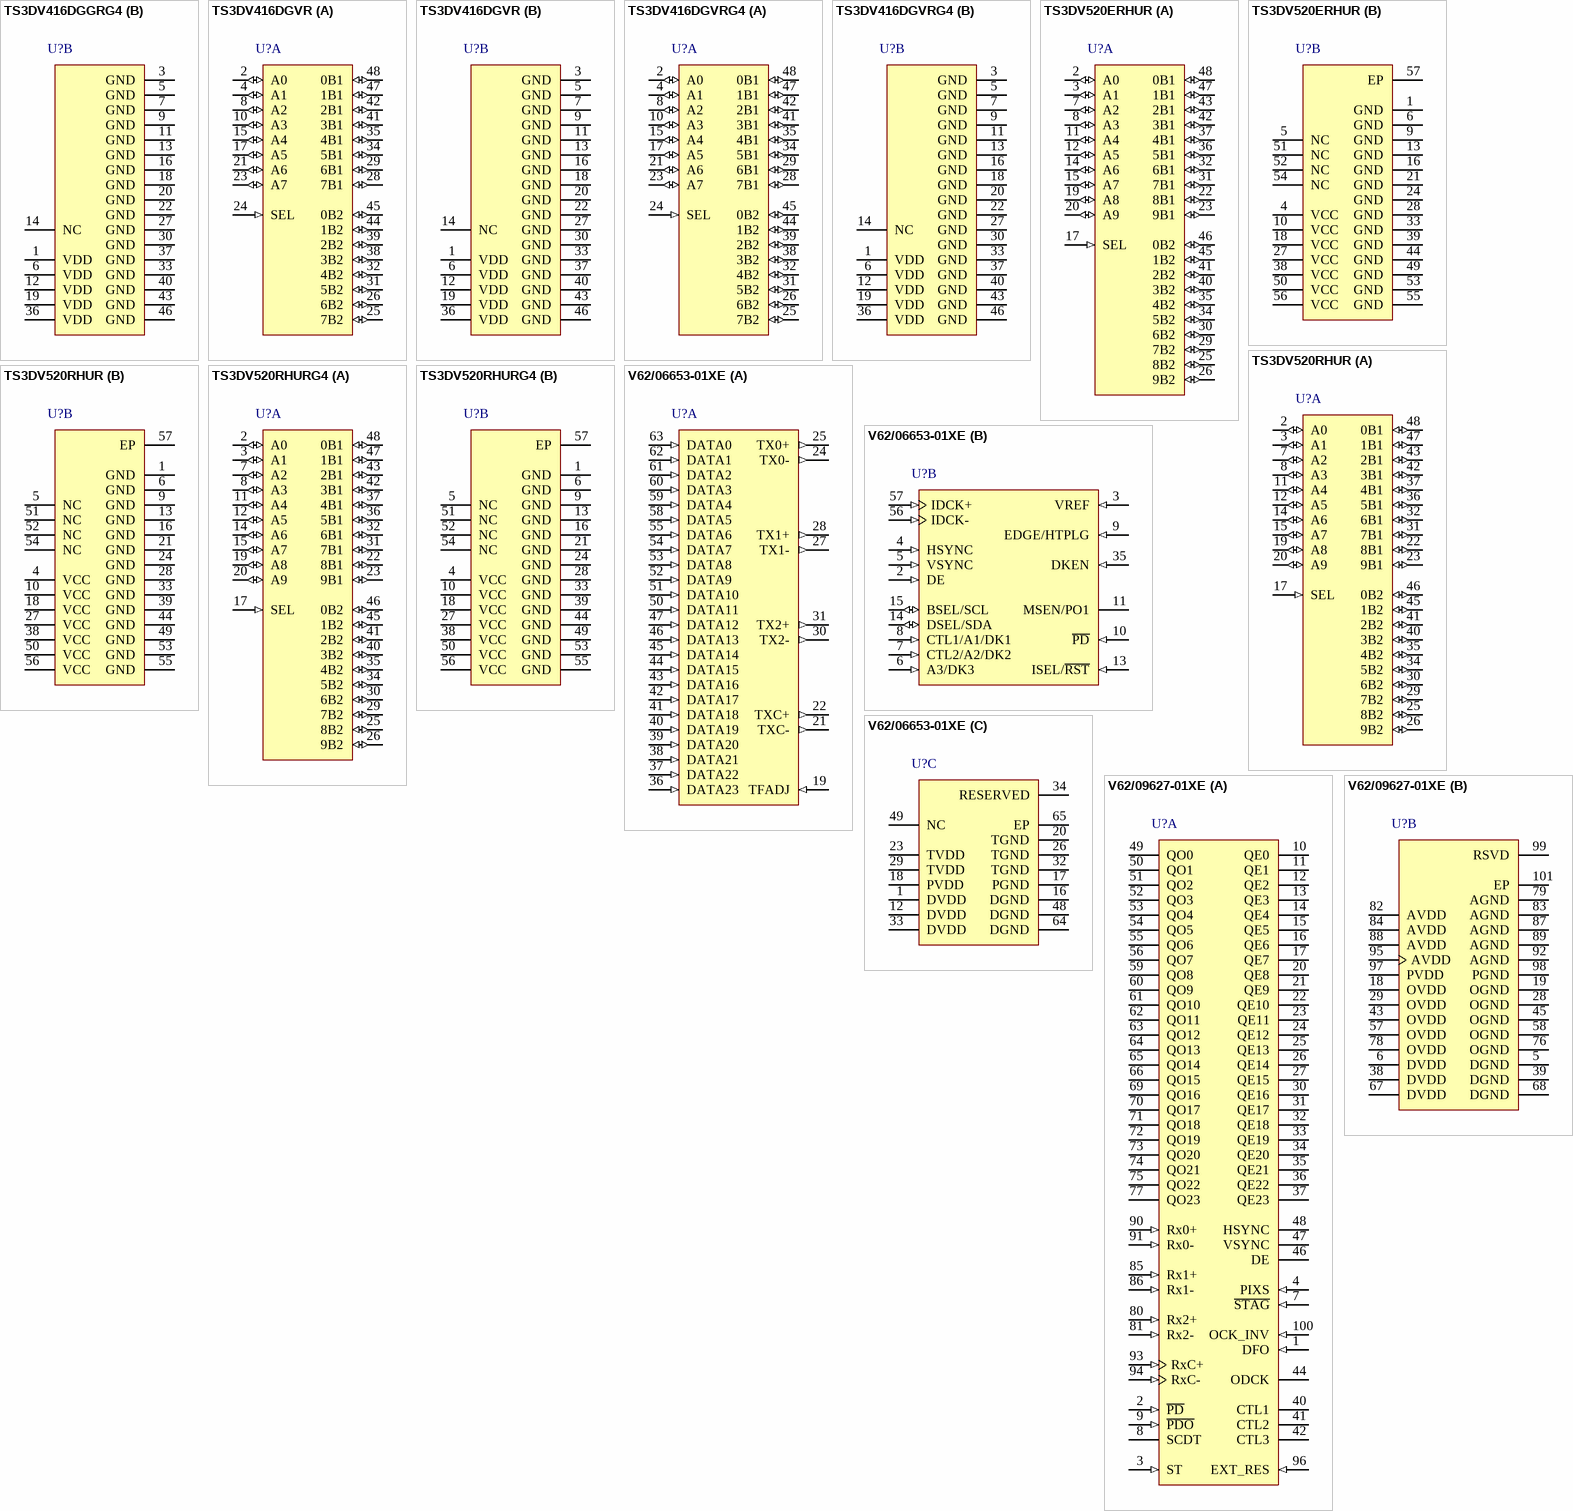
[diagram p14: symbols TS3DV416DGGRG4 to V62/09627-01XE]

## TS3DV416DGGRG4
designator U?
4-Channel Differential 8:16 Multiplexer Switch for DVI / HDMI Applications, -40 to +85 degC, 48-pin TSSOP (DGG), Green (RoHS & no Sb/Br); Manufacturer: Texas Instruments; PartNumber: TS3DV416DGGRG4; SubFamily: DVI/HDMI Repeater/Switch; DatasheetVersion: SCDS198C; PackageVersion: revF, Dec-1997; PackageReference: DGG48; PackageDescription: 48-Pin Plastic Thin Shrink Small Outline Package 0.5 mm Pitch; Supplier 1: Digi-Key; Supplier Part Number 1: TS3DV416DGGRG4-ND; Supplier 2: Newark; Supplier Part Number 2: 58M1304; Supplier 3: Mouser; Supplier Part Number 3: 595-TS3DV416DGGRG4; Eco-Plan: Green (RoHS & no Sb/Br); Mounting Technology: Surface Mount; Code_JEDEC: MO-153; ComponentLink1Description: Datasheet; ComponentLink1URL: http://www.ti.com/general/docs/lit/getliterature.tsp?genericPartNumber=TS3DV416&fileType=pdf; ComponentLink2Description: URL Link1; ComponentLink2URL: SamplesURL:http://www.ti.com/product/ts3dv416#samples
footprint DGG48_N (TSSOP, 48-Leads, Body 12.5x6.1mm, Pitch 0.5mm, IPC Medium Density)
footprint DGG48_L (TSSOP, 48-Leads, Body 12.5x6.1mm, Pitch 0.5mm, IPC High Density)
footprint DGG48_M (TSSOP, 48-Leads, Body 12.5x6.1mm, Pitch 0.5mm, IPC Low Density)
part A pins: 2 A0 (io) "Data I/O", 4 A1 (io) "Data I/O", 8 A2 (io) "Data I/O", 10 A3 (io) "Data I/O", 15 A4 (io) "Data I/O", 17 A5 (io) "Data I/O", 21 A6 (io) "Data I/O", 23 A7 (io) "Data I/O", 24 SEL (in) "Select input", 25 7B2 (io) "Data I/O", 26 6B2 (io) "Data I/O", 28 7B1 (io) "Data I/O", 29 6B1 (io) "Data I/O", 31 5B2 (io) "Data I/O", 32 4B2 (io) "Data I/O", 34 5B1 (io) "Data I/O", 35 4B1 (io) "Data I/O", 38 3B2 (io) "Data I/O", 39 2B2 (io) "Data I/O", 41 3B1 (io) "Data I/O", 42 2B1 (io) "Data I/O", 44 1B2 (io) "Data I/O", 45 0B2 (io) "Data I/O", 47 1B1 (io) "Data I/O", 48 0B1 (io) "Data I/O"
part B pins: 1 VDD (power), 3 GND (power) "Ground", 5 GND (power) "Ground", 6 VDD (power), 7 GND (power) "Ground", 9 GND (power) "Ground", 11 GND (power) "Ground", 12 VDD (power), 13 GND (power) "Ground", 14 NC "No Connect", 16 GND (power) "Ground", 18 GND (power) "Ground", 19 VDD (power), 20 GND (power) "Ground", 22 GND (power) "Ground", 27 GND (power) "Ground", 30 GND (power) "Ground", 33 GND (power) "Ground", 36 VDD (power), 37 GND (power) "Ground", 40 GND (power) "Ground", 43 GND (power) "Ground", 46 GND (power) "Ground"

## TS3DV416DGVR
designator U?
4-Channel Differential 8:16 Multiplexer Switch for DVI / HDMI Applications, -40 to +85 degC, 48-pin TVSOP (DGV), Green (RoHS & no Sb/Br); Manufacturer: Texas Instruments; PartNumber: TS3DV416DGVR; SubFamily: DVI/HDMI Repeater/Switch; DatasheetVersion: SCDS198C; PackageVersion: revE, Aug-2000; PackageReference: DGV48; PackageDescription: 48-Pin Thin Shrink Small Outline Package 0.4 mm Pitch; Supplier 1: Digi-Key; Supplier Part Number 1: 296-21176-2-ND; Supplier 2: Digi-Key; Supplier Part Number 2: 296-21176-1-ND; Supplier 3: Digi-Key; Supplier Part Number 3: 296-21176-6-ND; Supplier 4: Newark; Supplier Part Number 4: 58K7020; Supplier 5: Mouser; Supplier Part Number 5: 595-TS3DV416DGVR; Eco-Plan: Green (RoHS & no Sb/Br); Mounting Technology: Surface Mount; Code_JEDEC: MO-153; ComponentLink1Description: Datasheet; ComponentLink1URL: http://www.ti.com/general/docs/lit/getliterature.tsp?genericPartNumber=TS3DV416&fileType=pdf; ComponentLink2Description: URL Link1; ComponentLink2URL: SamplesURL:http://www.ti.com/product/ts3dv416#samples
footprint DGV48_N (TSSOP, 48-Leads, Body 9.7x4.4mm, Pitch 0.4mm, IPC Medium Density)
footprint DGV48_L (TSSOP, 48-Leads, Body 9.7x4.4mm, Pitch 0.4mm, IPC High Density)
footprint DGV48_M (TSSOP, 48-Leads, Body 9.7x4.4mm, Pitch 0.4mm, IPC Low Density)
part A pins: 2 A0 (io) "Data I/O", 4 A1 (io) "Data I/O", 8 A2 (io) "Data I/O", 10 A3 (io) "Data I/O", 15 A4 (io) "Data I/O", 17 A5 (io) "Data I/O", 21 A6 (io) "Data I/O", 23 A7 (io) "Data I/O", 24 SEL (in) "Select input", 25 7B2 (io) "Data I/O", 26 6B2 (io) "Data I/O", 28 7B1 (io) "Data I/O", 29 6B1 (io) "Data I/O", 31 5B2 (io) "Data I/O", 32 4B2 (io) "Data I/O", 34 5B1 (io) "Data I/O", 35 4B1 (io) "Data I/O", 38 3B2 (io) "Data I/O", 39 2B2 (io) "Data I/O", 41 3B1 (io) "Data I/O", 42 2B1 (io) "Data I/O", 44 1B2 (io) "Data I/O", 45 0B2 (io) "Data I/O", 47 1B1 (io) "Data I/O", 48 0B1 (io) "Data I/O"
part B pins: 1 VDD (power), 3 GND (power) "Ground", 5 GND (power) "Ground", 6 VDD (power), 7 GND (power) "Ground", 9 GND (power) "Ground", 11 GND (power) "Ground", 12 VDD (power), 13 GND (power) "Ground", 14 NC "No Connect", 16 GND (power) "Ground", 18 GND (power) "Ground", 19 VDD (power), 20 GND (power) "Ground", 22 GND (power) "Ground", 27 GND (power) "Ground", 30 GND (power) "Ground", 33 GND (power) "Ground", 36 VDD (power), 37 GND (power) "Ground", 40 GND (power) "Ground", 43 GND (power) "Ground", 46 GND (power) "Ground"